# Altium footprint library Inductors.PcbLib: 26 footprints (part 2 of 2)
Each footprint in its own frame and in the unit in brackets; x right, y up, seen from the top. Pads: shape width x height; smd on the part's side, far side on the other; paste and mask are expansions set on the pad; w line width, h text height; cw(c..) or ccw(c..) is an arc to the next point about the centre after c.
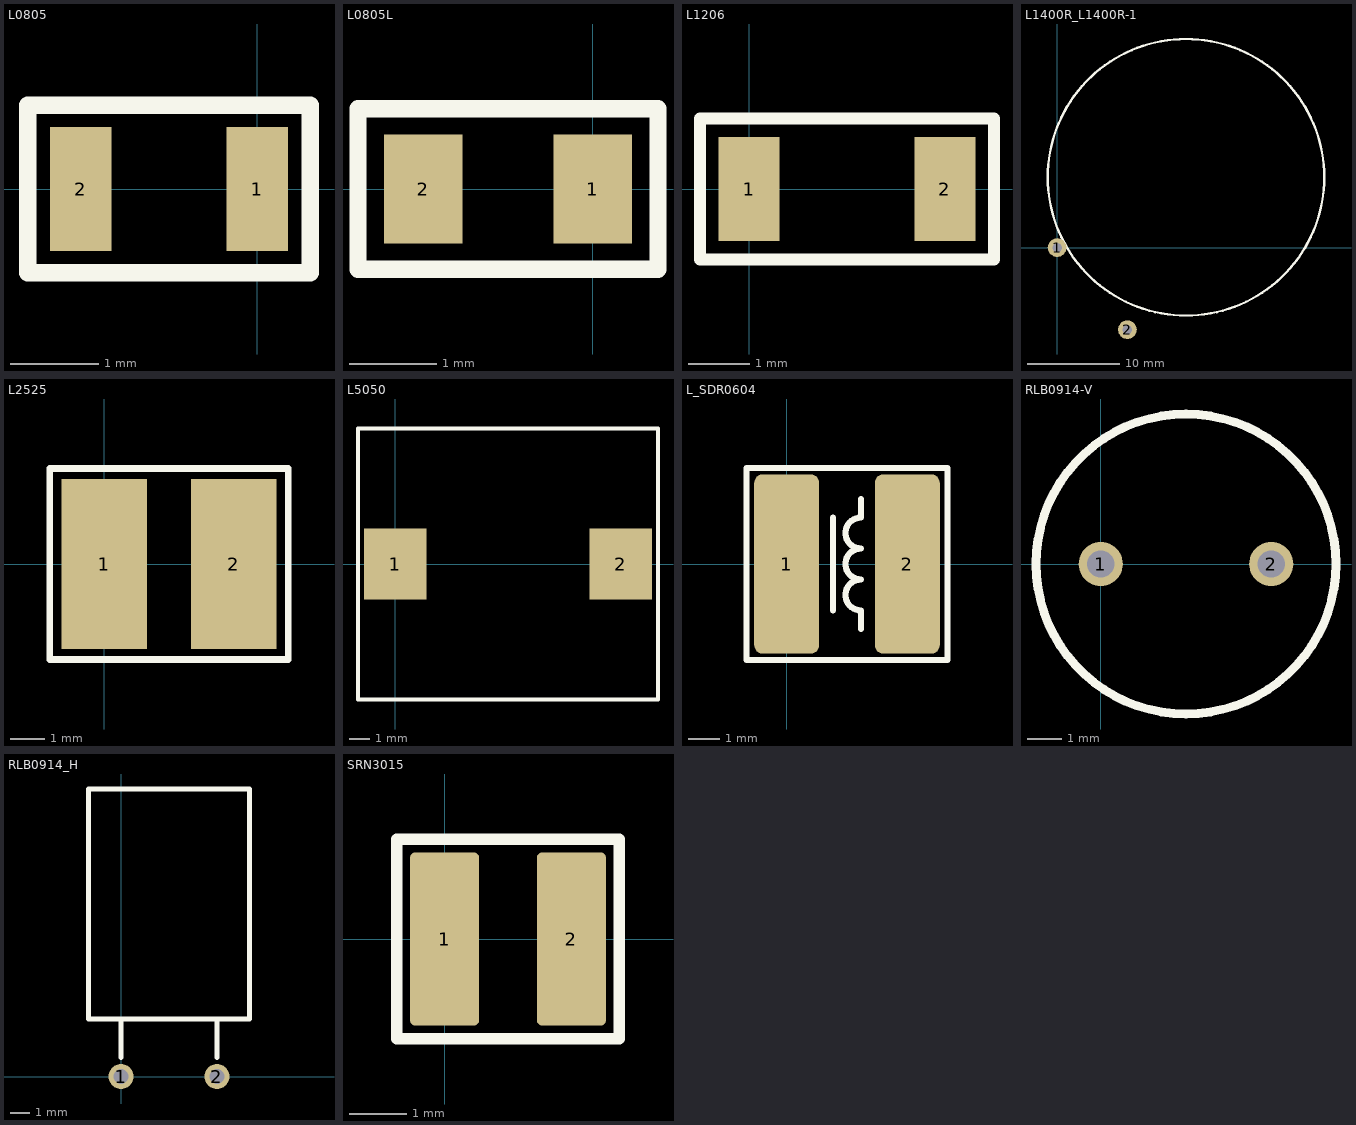
[diagram p1: the footprints below, top view; thin cyan lines are the x and y axes]

## L0805 [mm]
pads (2):
  rect 0.7x1.4 smd: 1(0,0) 2(-2,0)
Top Overlay:
  lines w0.2: -2.6,-0.95 -2.6,0.95 0.6,0.95 0.6,-0.95 -2.6,-0.95
Top Assembly:
  text ".Designator" at -5.499,-0.3 h0.9
3D body "User Library-ind_0805.STEP": height 0.95, standoff 0, extent -2,-0.6 0,0.6

## L0805L [mm]
pads (2):
  rect 0.9x1.25 smd: 1(0,0) 2(-1.95,0)
Top Overlay:
  lines w0.2: -2.7,-0.925 0.75,-0.925 0.75,0.925 -2.7,0.925 -2.7,-0.925
Top Assembly:
  text ".Designator" at -5.474,-0.3 h0.9
3D body "User Library-ind_0805.STEP": height 0.95, standoff 0, extent -1.975,-0.6 0.025,0.6

## L1206 [mm]
pads (2):
  rect 1x1.7 smd: 1(0,0) 2(3.2,0)
Top Overlay:
  lines w0.2: -0.8,-1.15 -0.8,1.15 4,1.15 4,-1.15 -0.8,-1.15
Top Assembly:
  text ".Designator" at -2.399,-0.267 h0.8
3D body "User Library-ind_1206.STEP": height 1.1, standoff 0, extent 0,-0.8 3.2,0.8

## L1400R_L1400R-1 [mil]
pads (2):
  round 80 hole 40: 1(0,0) 2(300,-350)
Top Overlay:
  circle w10: c550,300 r590
Top Assembly:
  text ".Designator" at 746.79,237.38 h39.37

## L2525 [mm]
height 4.7
pads (2):
  rect 2.5x5 smd: 1(0,0) 2(3.8,0)
Top Overlay:
  lines w0.2: -1.6,-2.8 5.4,-2.8 5.4,2.8 -1.6,2.8 -1.6,-2.8
Top Assembly:
  text ".Designator" at 6.898,-0.333 h1

## L5050 [mm]
height 4.7
pads (2):
  rect 3x3.4 smd: 1(0,0) 2(10.8,0)
Top Overlay:
  lines w0.2: -1.8,-6.5 -1.8,6.5 12.6,6.5 12.6,-6.5 -1.8,-6.5
Top Assembly:
  text ".Designator" at 10.398,-0.333 h1

## L_SDR0604 [mm]
pads (2):
  rrect25% 2.1x5.8 smd: 1(0,0) 2(3.9,0)
Top Overlay:
  lines w0.2: 1.5,-1.5 1.5,1.5 ; 2.4,-2.1 2.4,-1.5 cw(c2.4,-1) 2.4,-0.5 cw(c2.4,0) 2.4,0.5 cw(c2.4,1) 2.4,1.5 2.4,2.1 ; -1.3,-3.1 5.2,-3.1 5.2,3.1 -1.3,3.1 -1.3,-3.1
Top Assembly:
  text ".Designator" at 0.758,-4.998 h1
3D body "User Library-SDR0604.STEP": height 4.55, standoff 0, extent -0.8,-2.8 4.708,2.8

## RLB0914-V [mm] "radial induktor"
height 12
pads (2):
  round 1.3 hole 0.8: 1(0,0) 2(5,0)
Top Overlay:
  circle w0.254: c2.5,0 r4.4
Top Assembly:
  text ".Designator" at 7.498,-0.333 h1
3D body "RLB0914_V.STEP": height 12, standoff -2.86, extent -1.85,-4.35 6.85,4.35

## RLB0914_H [mm] "radial induktor"
height 9
pads (2):
  round 1.3 hole 0.8: 1(0,0) 2(5,0)
Top Overlay:
  lines w0.25: 0,1 0,3 ; 5,1 5,3 ; -1.7,3 6.7,3 6.7,15 -1.7,15 -1.7,3
Top Assembly:
  text ".Designator" at 7.498,6.853 h1
3D body "RLB0914_H.STEP": height 8.7, standoff -3, extent -1.85,-0.3 6.85,15.025

## SRN3015 [mm] "Drossel"
height 1.5
pads (2):
  rrect15% 1.2x3 smd: 1(0,0) 2(2.2,0)
Top Overlay:
  lines w0.2: -0.825,-1.725 -0.825,1.725 3.025,1.725 3.025,-1.725 -0.825,-1.725
Top Assembly:
  text ".Designator" at 6.098,-0.333 h1
3D body "User Library-Inductor SRN3015 Series.STEP": height 1.5, standoff 0, extent -0.41,-1.362 2.61,1.362